# EAGLE library part E19 (library LARS_409_MODULES)
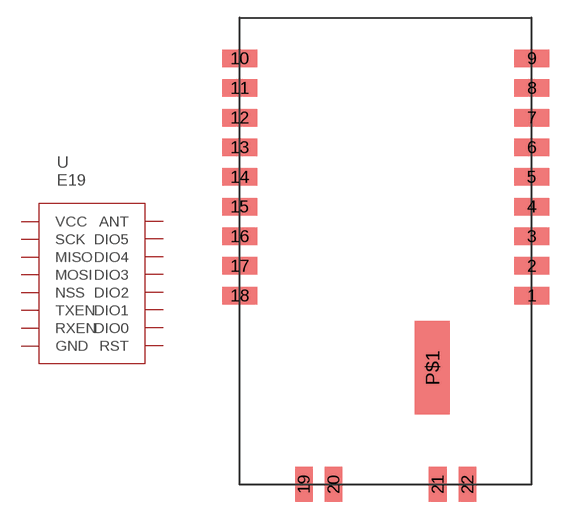
[diagram p11: symbol with the pads of E19-868M30; footprint E19-868M30]

Designator prefix U

## E19  [E19-868M30]
1  GND
2  DIO5
3  DIO4
4  DIO3
5  DIO2
6  DIO1
7  DIO0
8  RST
9  GND
10  GND
11  VCC
12  SCK
13  MISO
14  MOSI
15  NSS
16  TXEN
17  RXEN
18  GND
19  ANT
20  GND
21  GND
22  GND
P$1  GND

## Footprint E19-868M30 (pad centres in mm)
smd 3 x 1.5: 1 12.5,-3.82; 2 12.5,-1.28; 3 12.5,1.26; 4 12.5,3.8; 5 12.5,6.34; 6 12.5,8.88; 7 12.5,11.42; 8 12.5,13.96; 9 12.5,16.5; 10 -12.5,16.5; 11 -12.5,13.96; 12 -12.5,11.42; 13 -12.5,8.88; 14 -12.5,6.34; 15 -12.5,3.8; 16 -12.5,1.26; 17 -12.5,-1.28; 18 -12.5,-3.82
smd 1.5 x 3: 19 -7,-20; 20 -4.46,-20; 21 4.46,-20; 22 7,-20
smd 3 x 8: P$1 4,-10